# Altium footprint library V585ME06.PcbLib: 1 footprints
Each footprint in its own frame and in the unit in brackets; x right, y up, seen from the top. Pads: shape width x height; smd on the part's side, far side on the other; paste and mask are expansions set on the pad; w line width, h text height; cw(c..) or ccw(c..) is an arc to the next point about the centre after c.
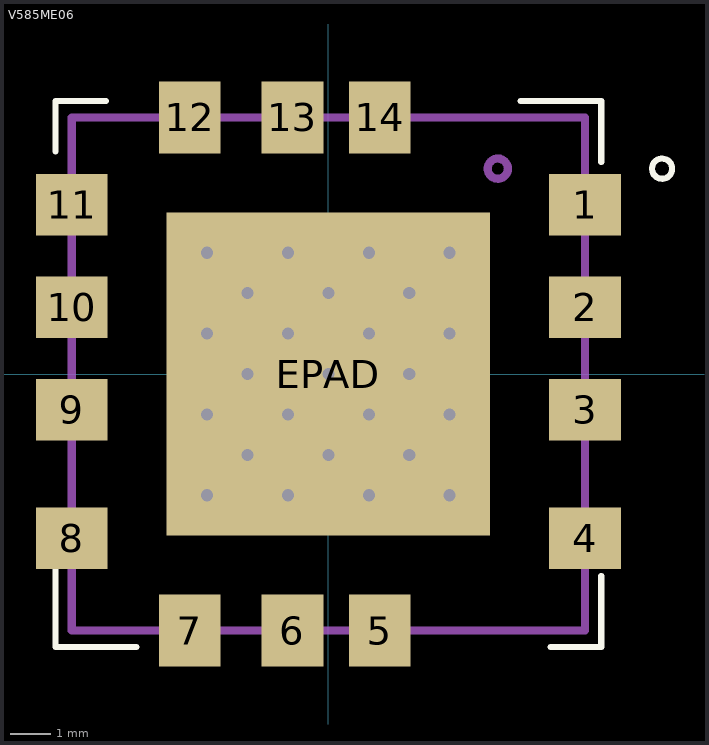
[diagram p0: the footprint, top view; thin cyan lines are the x and y axes]

## V585ME06 [mil] "Small Size, Surface Mount oscillator"
height 181.1
pads (15):
  rect 70x60 smd: 1(250,165) 2(250,65) 3(250,-35) 4(250,-160) 8(-250,-160) 9(-250,-35) 10(-250,65) 11(-250,165)
  rect 60x70 smd: 5(50,-250) 6(-35,-250) 7(-135,-250) 12(-135,250) 13(-35,250) 14(50,250)
  rect 314.96x314.96 smd paste-393.7: EPAD(0,0)
via 118.11,-118.11 diameter 27.56 hole 11.81
via 118.11,-39.37 diameter 27.56 hole 11.81
via 118.11,39.37 diameter 27.56 hole 11.81
via 118.11,118.11 diameter 27.56 hole 11.81
via 39.37,118.11 diameter 27.56 hole 11.81
via -39.37,118.11 diameter 27.56 hole 11.81
via -118.11,118.11 diameter 27.56 hole 11.81
via -118.11,39.37 diameter 27.56 hole 11.81
via -118.11,-39.37 diameter 27.56 hole 11.81
via -118.11,-118.11 diameter 27.56 hole 11.81
via -39.37,-118.11 diameter 27.56 hole 11.81
via 39.37,-118.11 diameter 27.56 hole 11.81
via 78.74,-78.74 diameter 27.56 hole 11.81
via 39.37,-39.37 diameter 27.56 hole 11.81
via 78.74,0 diameter 27.56 hole 11.81
via 39.37,39.37 diameter 27.56 hole 11.81
via 78.74,78.74 diameter 27.56 hole 11.81
via -78.74,78.74 diameter 27.56 hole 11.81
via 0,78.74 diameter 27.56 hole 11.81
via -39.37,39.37 diameter 27.56 hole 11.81
via -78.74,0 diameter 27.56 hole 11.81
via -78.74,-78.74 diameter 27.56 hole 11.81
via -39.37,-39.37 diameter 27.56 hole 11.81
via 0,-78.74 diameter 27.56 hole 11.81
via 0,0 diameter 27.56 hole 11.81
Top Overlay:
  circle w5.91: c325,200 r9.84
  lines w5.91: -265.75,-187.01 -265.75,-265.75 -187.01,-265.75 ; -265.75,216.54 -265.75,265.75 -216.54,265.75 ; 187.01,265.75 265.75,265.75 265.75,206.69 ; 216.54,-265.75 265.75,-265.75 265.75,-196.85
Top Paste:
  region: -48.74,49.21 -48.74,108.27 -107.8,108.27 -107.8,49.21
  region: 30,49.21 30,108.27 -29.06,108.27 -29.06,49.21
  region: 108.74,49.21 108.74,108.27 49.69,108.27 49.69,49.21
  region: -48.74,-108.27 -48.74,-49.21 -107.8,-49.21 -107.8,-108.27
  region: 108.74,-108.27 108.74,-49.21 49.69,-49.21 49.69,-108.27
  region: 30,-108.27 30,-49.21 -29.06,-49.21 -29.06,-108.27
  region: 108.74,-29.53 108.74,29.53 49.69,29.53 49.69,-29.53
  region: -48.74,-29.53 -48.74,29.53 -107.8,29.53 -107.8,-29.53
  region: 30,-29.53 30,29.53 -29.06,29.53 -29.06,-29.53
Mechanical 1:
  circle w7.87: c165,200 r9.84
  lines w7.87: -250,-250 250,-250 250,250 -250,250 -250,-250
3D body "DCYS300600-5.stp": height 180.4, standoff 0.48, extent -250.01,-250.01 249.99,249.99